# EAGLE library part 691411410006 (library WR-TBL Spring Clamp)
WR-TBL Serie 4114 - 7.62 mm Screwless Horizontal Cable Entry KIND PROPERTIES Pitch 7.62 mm MATERIAL PROPERTIES Insulator Material PA6/66 Insulator Flammability Rating UL94 V-0 Insulator Color Grey Contact Material INOX Steel Contact Type Stamped Wire Guard Material Copper Alloy with Tin over Nickel GENERAL INFORMATION Operating Temperature -30 up to +120 °C Compliance Lead free / RoHS ELECTRICAL PROPERTIES IR UL 10 A IR VDE 10 A Working Voltage [UL] 300 V (AC) Working Voltage [VDE] 750 V (AC) Withstanding Voltage [UL] 1600 V (AC) Withstanding Voltage [VDE] 3000 V (AC) Contact Resistance 20 mΩ Mechanical Properties Wire Strip Length 10 (mm) Wire Properties Solid Wire Section (AWG) 16 to 30 (AWG) Solid Wire Section (Metric) 1.31 to 0.05 (mm²) Stranded Wire Section (AWG) 16 to 30 (AWG) Stranded Wire Section (Metric) 1.31 to 0.05 (mm²) CERTIFICATION UL Approval E150931; E150931 Cat No. MRT1 (1) VDE Approval 40021396 VDE Approval 40021396 Type MRT1 Packaging Properties Packaging Box Details see: www.we-online.com/en/components/products/TBL_7_62_4114_SCREWLESS_HORIZONTAL_ENTRY_6914114100xx/ Updated by Ella Wu 2019-12-31 2019(C) Würth Elektronik
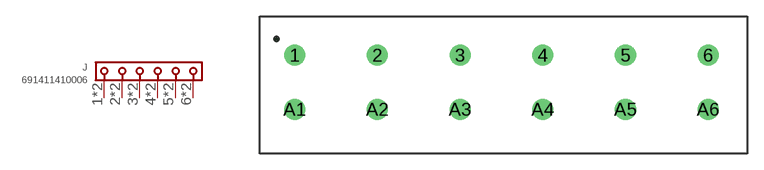
[diagram p89: symbol with the pads of 691411410006; footprint 691411410006]

Designator prefix J

## 691411410006 (APPLICATION: Screwless Push In; DATASHEET: https://www.we-online.com/redexpert/spec/691411410006?ae; IR-UL: 10A; MODULARITY: No; MOUNT: THT; PART-NUMBER: 691411410006; PINS: 6; PITCH: 7.62mm; TYPE: Horizontal Cable Entry; VALUE: 691411410006; WIRE: 16 to 30 (AWG) 0.5 to 1.5 (mm²); WORKING-VOLTAGE-UL: 300V (AC))  [691411410006]
1  1  pas
2  2  pas
3  3  pas
4  4  pas
5  5  pas
6  6  pas
A1  1  pas
A2  2  pas
A3  3  pas
A4  4  pas
A5  5  pas
A6  6  pas

## Footprint 691411410006 (pad centres in mm)
WR-TBL Serie 4114 - 7.62 mm Screwless Horizontal Cable Entry Max Height = 13.9mm , Pitch 7.62mm , 6pins
drill 1.3: 1 -19.05,2.5; 2 -11.43,2.5; 3 -3.81,2.5; 4 3.81,2.5; 5 11.43,2.5; 6 19.05,2.5; A1 -19.05,-2.5; A2 -11.43,-2.5; A3 -3.81,-2.5; A4 3.81,-2.5; A5 11.43,-2.5; A6 19.05,-2.5